# EAGLE library part ESP32_R (library Header_R_ESP32)
CONN HEADER VERT 18POS 2.54MM Manufacturer's datasheet <https://katalog.we-online.de/em/datasheet/6130xx11121.pdf>
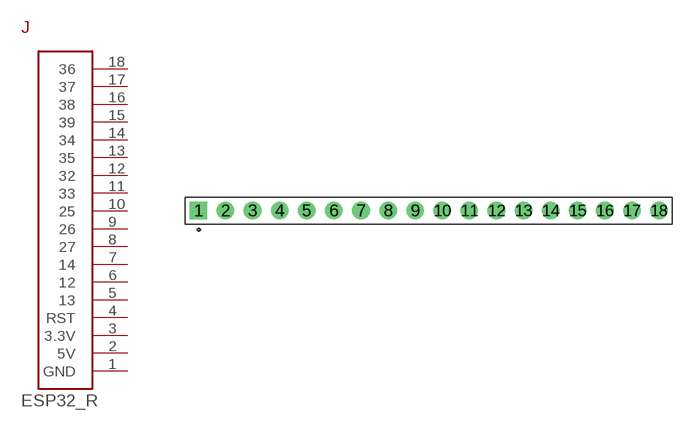
[diagram p50: symbol with the pads of 61301811121; footprint 61301811121]

Designator prefix J

## ESP32_R (CREATED_BY: PCBLayout.com; DIGIKEY_PART_NUMBER: 732-5328-ND; MANUFACTURER: Wurth Electronics Inc.; MPN: 61301811121)  [61301811121]
1  GND  pas
2  5V  pas
3  3.3V  pas
4  RST  pas
5  13  pas
6  12  pas
7  14  pas
8  27  pas
9  26  pas
10  25  pas
11  33  pas
12  32  pas
13  35  pas
14  34  pas
15  39  pas
16  38  pas
17  37  pas
18  36  pas

## Footprint 61301811121 (pad centres in mm)
drill 1.1 square: 1 -21.59,0
drill 1.1: 2 -19.05,0; 3 -16.51,0; 4 -13.97,0; 5 -11.43,0; 6 -8.89,0; 7 -6.35,0; 8 -3.81,0; 9 -1.27,0; 10 1.27,0; 11 3.81,0; 12 6.35,0; 13 8.89,0; 14 11.43,0; 15 13.97,0; 16 16.51,0; 17 19.05,0; 18 21.59,0